# EAGLE library part HDMI-Y (library HDMI)
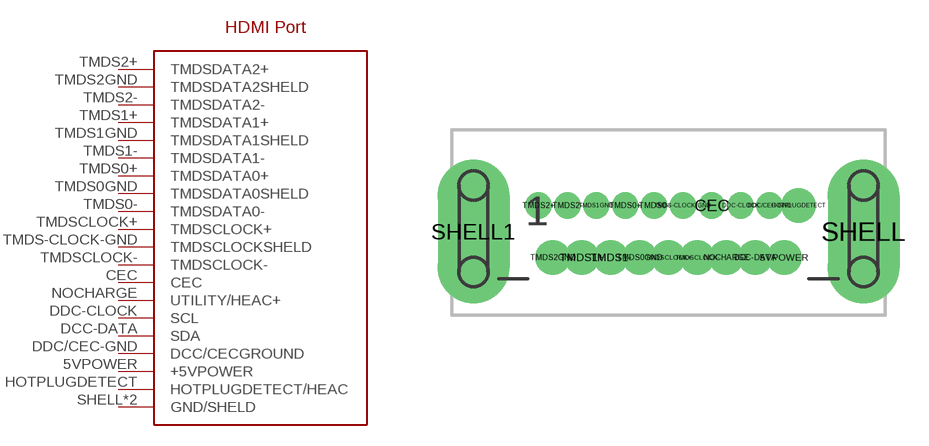
[diagram p0: symbol with the pads of HDMI-Y; footprint HDMI-Y]

Designator prefix -

## HDMI-Y  [HDMI-Y]
5VPOWER  +5VPOWER
CEC  CEC
DCC-DATA  SDA
DDC-CLOCK  SCL
DDC/CEC-GND  DCC/CECGROUND
HOTPLUGDETECT  HOTPLUGDETECT/HEAC
NOCHARGE  UTILITY/HEAC+
SHELL  GND/SHELD
SHELL1  GND/SHELD
TMDS0+  TMDSDATA0+
TMDS0-  TMDSDATA0-
TMDS0GND  TMDSDATA0SHELD
TMDS1+  TMDSDATA1+
TMDS1-  TMDSDATA1-
TMDS1GND  TMDSDATA1SHELD
TMDS2+  TMDSDATA2+
TMDS2-  TMDSDATA2-
TMDS2GND  TMDSDATA2SHELD
TMDS-CLOCK-GND  TMDSCLOCKSHELD
TMDSCLOCK+  TMDSCLOCK+
TMDSCLOCK-  TMDSCLOCK-

## Footprint HDMI-Y (pad centres in mm)
drill 0.7 pad 0.86: 5VPOWER 1.46,5.66; DCC-DATA 0.46,5.66; HOTPLUGDETECT 1.96,7.46; NOCHARGE -0.54,5.66; TMDS0GND -3.54,5.66; TMDS1+ -5.54,5.66; TMDS1- -4.54,5.66; TMDS2GND -6.54,5.66; TMDSCLOCK+ -2.54,5.66; TMDSCLOCK- -1.54,5.66
drill 0.4 pad 0.7: CEC -1.04,7.46; DDC-CLOCK -0.04,7.46; DDC/CEC-GND 0.96,7.46; TMDS0+ -4.04,7.46; TMDS0- -3.04,7.46; TMDS1GND -5.04,7.46; TMDS2+ -7.04,7.46; TMDS2- -6.04,7.46; TMDS-CLOCK-GND -2.04,7.46
drill 0.9 pad 2.5 long: SHELL 4.21,6.56; SHELL1 -9.29,6.56